# Altium footprint library SOP14P127_865X600X175L83X41N.PcbLib: 1 footprints
Each footprint in its own frame and in the unit in brackets; x right, y up, seen from the top. Pads: shape width x height; smd on the part's side, far side on the other; paste and mask are expansions set on the pad; w line width, h text height; cw(c..) or ccw(c..) is an arc to the next point about the centre after c.
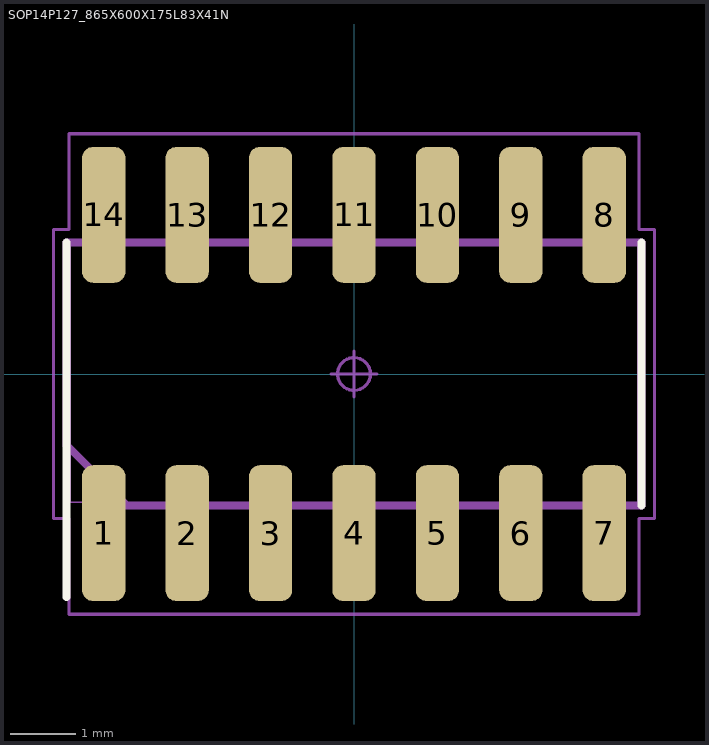
[diagram p0: the footprint, top view; thin cyan lines are the x and y axes]

## SOP14P127_865X600X175L83X41N [mil] "Small Outline Pkg (SOIC, SOP), 1.27 mm pitch; 14 pin, 8.65 mm L X 3.90 mm W X 1.75 mm H Body"
height 68.9
pads (14):
  rrect50% 25.94x81.46 smd: 1(-150,-95.39) 2(-100,-95.39) 3(-50,-95.39) 4(0,-95.39) 5(50,-95.39) 6(100,-95.39) 7(150,-95.39) 8(150,95.39) 9(100,95.39) 10(50,95.39) 11(0,95.39) 12(-50,95.39) 13(-100,95.39) 14(-150,95.39)
Top Overlay:
  lines w4.72: -172.24,-133.78 -172.24,-78.74 -172.24,78.74 ; 172.24,-78.74 172.24,78.74
Mechanical 3:
  lines w4.72: -172.24,-42.76 -172.24,78.74 172.24,78.74 172.24,-78.74 -136.26,-78.74 -172.24,-42.76
Mechanical 5:
  lines w0.98: -170.28,-76.77 170.28,-76.77 170.28,76.77 -170.28,76.77 -170.28,-76.77 ; -158.07,-118.09 -158.07,-85.22 -141.93,-85.22 -141.93,-118.09 -158.07,-118.09 ; -158.07,85.22 -158.07,118.09 -141.93,118.09 -141.93,85.22 -158.07,85.22 ; -108.07,-118.09 -108.07,-85.22 -91.93,-85.22 -91.93,-118.09 -108.07,-118.09 ; -108.07,85.22 -108.07,118.09 -91.93,118.09 -91.93,85.22 -108.07,85.22 ; -58.07,-118.09 -58.07,-85.22 -41.93,-85.22 -41.93,-118.09 -58.07,-118.09 ; -58.07,85.22 -58.07,118.09 -41.93,118.09 -41.93,85.22 -58.07,85.22 ; -8.07,-118.09 -8.07,-85.22 8.07,-85.22 8.07,-118.09 -8.07,-118.09 ; -8.07,85.22 -8.07,118.09 8.07,118.09 8.07,85.22 -8.07,85.22 ; 41.93,-118.09 41.93,-85.22 58.07,-85.22 58.07,-118.09 41.93,-118.09 ; 41.93,85.22 41.93,118.09 58.07,118.09 58.07,85.22 41.93,85.22 ; 91.93,-118.09 91.93,-85.22 108.07,-85.22 108.07,-118.09 91.93,-118.09 ; 91.93,85.22 91.93,118.09 108.07,118.09 108.07,85.22 91.93,85.22 ; 141.93,-118.09 141.93,-85.22 158.07,-85.22 158.07,-118.09 141.93,-118.09 ; 141.93,85.22 141.93,118.09 158.07,118.09 158.07,85.22 141.93,85.22
Mechanical 7:
  circle w1.97: c0,0 r9.84
  lines w1.97: -13.78,0 13.78,0 ; 0,-13.78 0,13.78 ; -180.12,-86.61 -170.87,-86.61 -170.87,-144.02 170.87,-144.02 170.87,-86.61 180.12,-86.61 180.12,86.61 170.87,86.61 170.87,144.02 -170.87,144.02 -170.87,86.61 -180.12,86.61 -180.12,-86.61
Mechanical 9:
  text "'.Designator'" at -229,-10.67 h40
3D body "SOP14P127_865X600X175L83X41.STEP": height 68.9, standoff 0, extent -170.28,-118.11 170.28,118.11
3D body: height 68.9, standoff 0, extent -180.12,-144.02 180.12,144.02